# Altium schematic symbol library OL_G.Schlib: 1 symbol
Pins are listed as number, name and electrical type; pins without a type are passive.

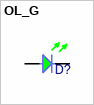
[diagram p0: symbol OL_G]

## OL_G
designator D?  (value not drawn)
LED GREEN
pins: 1 C, 2 A